# EAGLE library part 3PDT (library GFE LOGO)
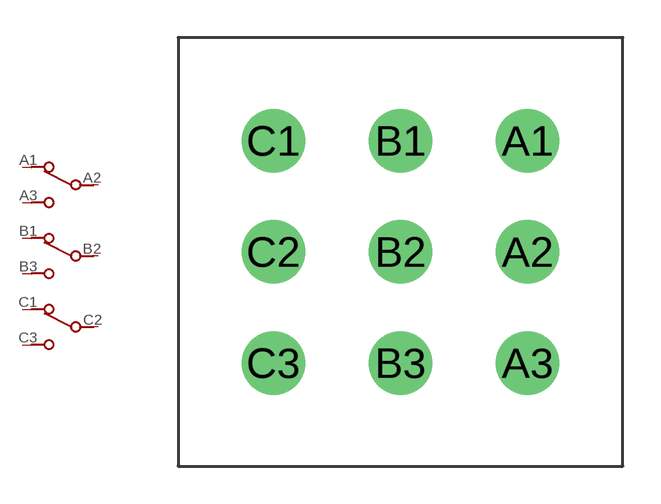
[diagram p0: symbol with the pads of 3PDT; footprint 3PDT]

Designator prefix -; gates G$1=3PDT G$2=3PDT G$3=3PDT

## 3PDTTAYDA  [3PDT]
A1  G$1:P$1
A2  G$1:P$2
A3  G$1:P$3
B1  G$2:P$1
B2  G$2:P$2
B3  G$2:P$3
C1  G$3:P$1
C2  G$3:P$2
C3  G$3:P$3

## Footprint 3PDT (pad centres in mm)
drill 1.397 pad 2.54: A1 5.08,4.445; A2 5.08,0; A3 5.08,-4.445; B1 0,4.445; B2 0,0; B3 0,-4.445; C1 -5.08,4.445; C2 -5.08,0; C3 -5.08,-4.445